# EAGLE library part ADAFRUIT_INA219_BATTERY_SENSOR (library AERO_Eagle_Library)
Adafruit's Battery Sensor: INA219 https://www.adafruit.com/product/904
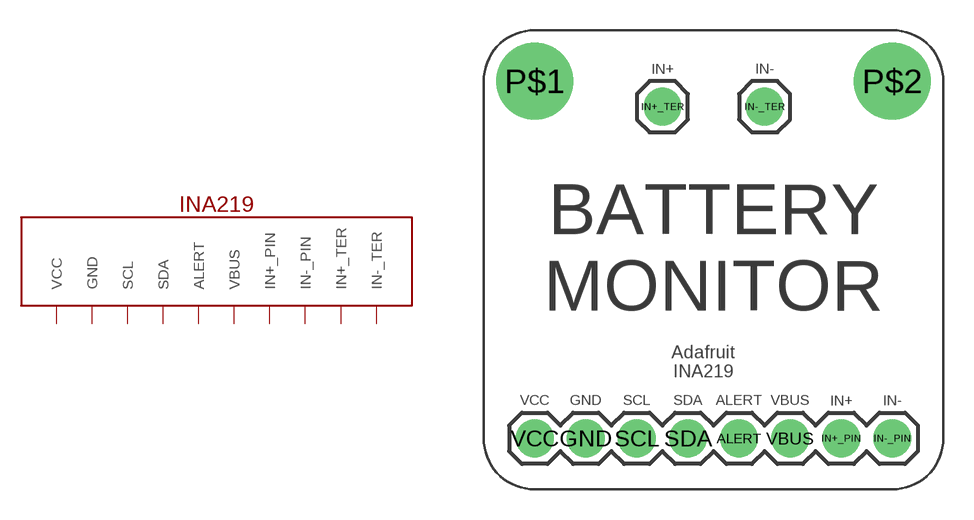
[diagram p4: symbol with the pads of ADAFRUIT_INA219_BATTERY_SENSOR; footprint ADAFRUIT_INA219_BATTERY_SENSOR]

Designator prefix U

## ADAFRUIT_INA219_BATTERY_SENSOR  [ADAFRUIT_INA219_BATTERY_SENSOR]
ALERT  ALERT
GND  GND
IN+_PIN  IN+_PIN
IN+_TER  IN+_TER
IN-_PIN  IN-_PIN
IN-_TER  IN-_TER
SCL  SCL
SDA  SDA
VBUS  VBUS
VCC  VCC

## Footprint ADAFRUIT_INA219_BATTERY_SENSOR (pad centres in mm)
Adafruit's Battery Sensor: INA219 https://www.adafruit.com/product/904
drill 1.016 pad 1.88: ALERT 12.7,2.54; GND 5.08,2.54; IN+_PIN 17.78,2.54; IN+_TER 8.89,19.05; IN-_PIN 20.32,2.54; IN-_TER 13.97,19.05; SCL 7.62,2.54; SDA 10.16,2.54; VBUS 15.24,2.54; VCC 2.54,2.54
drill 2.54 pad 3.81: P$1 2.54,20.32; P$2 20.32,20.32